# Altium footprint library PcbLib.PcbLib: 25 footprints (part 2 of 2)
Each footprint in its own frame and in the unit in brackets; x right, y up, seen from the top. Pads: shape width x height; smd on the part's side, far side on the other; paste and mask are expansions set on the pad; w line width, h text height; cw(c..) or ccw(c..) is an arc to the next point about the centre after c.
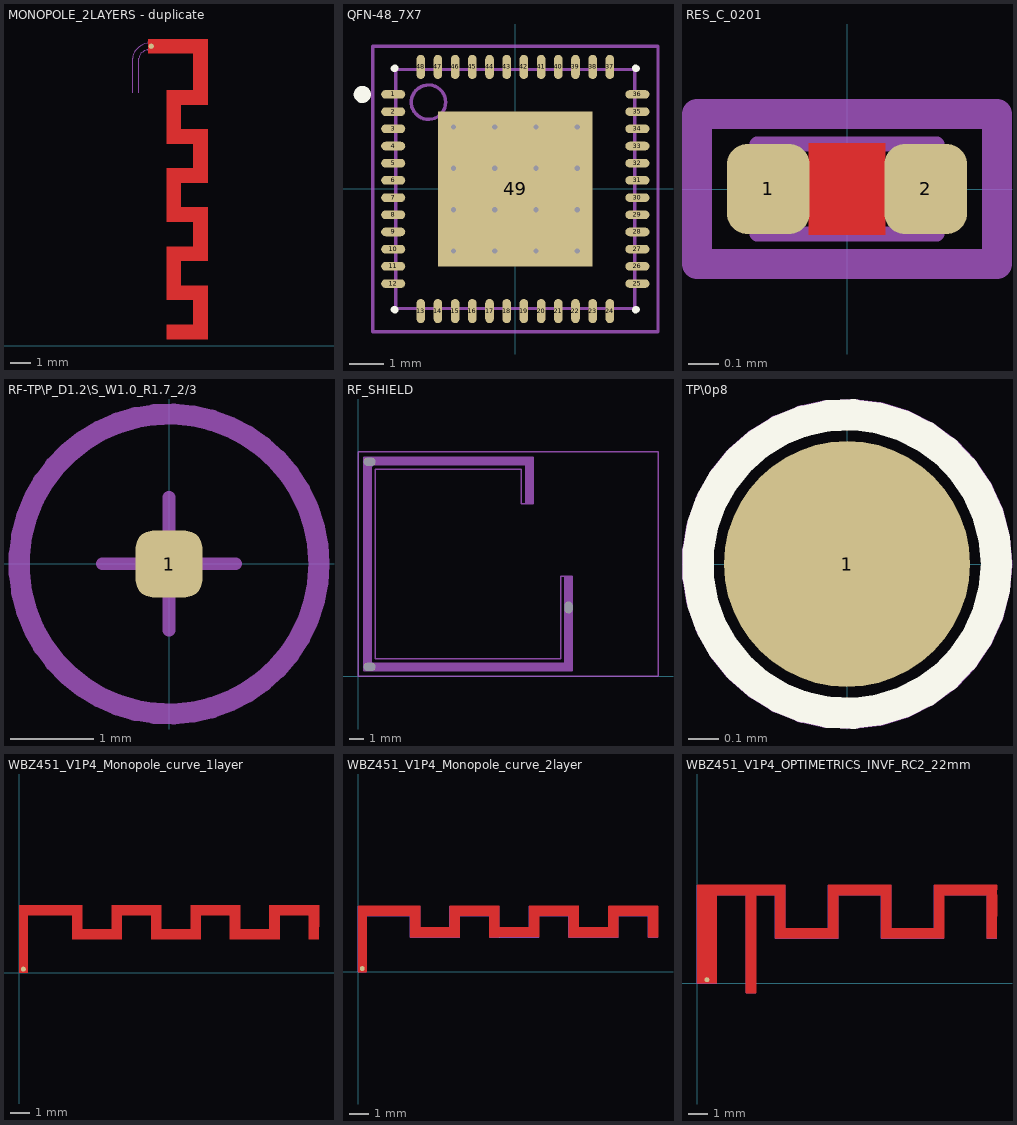
[diagram p1: the footprints below, top view; thin cyan lines are the x and y axes]

## MONOPOLE_2LAYERS - duplicate [mil]
height 27.56
pads (1):
  round 10 smd paste-10: 1(1024,573.99)
Top Layer:
  region: 1018,587.78 1132.17,587.78 1132.17,461.8 1080.99,461.8 1080.99,414.55 1132.17,414.55 1132.17,312.19 1080.99,312.19 1080.99,264.94 1132.17,264.94 1132.17,162.58 1080.99,162.58 1080.99,115.34 1132.17,115.34 1132.17,12.98 1053.43,12.98 1053.43,40.54 1104.61,40.54 1104.61,87.78 1053.43,87.78 1053.43,190.14 1104.61,190.14 1104.61,237.39 1053.43,237.39 1053.43,339.75 1104.61,339.75 1104.61,386.99 1053.43,386.99 1053.43,489.35 1104.61,489.35 1104.61,560.22 1018,560.22
Top Solder:
  region: 1018,587.78 1132.17,587.78 1132.17,461.8 1080.99,461.8 1080.99,414.55 1132.17,414.55 1132.17,312.19 1080.99,312.19 1080.99,264.94 1132.17,264.94 1132.17,162.58 1080.99,162.58 1080.99,115.34 1132.17,115.34 1132.17,12.98 1053.43,12.98 1053.43,40.54 1104.61,40.54 1104.61,87.78 1053.43,87.78 1053.43,190.14 1104.61,190.14 1104.61,237.39 1053.43,237.39 1053.43,339.75 1104.61,339.75 1104.61,386.99 1053.43,386.99 1053.43,489.35 1104.61,489.35 1104.61,560.22 1018,560.22
Mechanical 11:
  text ".Designator" at 900,290 h39.37
Mechanical 20:
  lines w0.5: 988.69,484.93 988.69,550.9 cw(c1013.65,550.9) 996,568.55 cw(c1024.79,539.77) 1018.26,579.95 1018.26,582.4 ; 1000.59,484.93 1000.59,550.9 cw(c1013.65,550.9) 1004.42,560.14 cw(c1024.79,539.77) 1018.26,567.83 1018.26,565.6

## QFN-48_7X7 [mm] "VQFN48_7x7mm_4.5x4.5mm_Paddle"
height 1
pads (49):
  oval 0.7x0.25 smd paste+0.051 mask+0.051: 1(-3.55,2.75) 2(-3.55,2.25) 3(-3.55,1.75) 4(-3.55,1.25) 5(-3.55,0.75) 6(-3.55,0.25) 7(-3.55,-0.25) 8(-3.55,-0.75) 9(-3.55,-1.25) 10(-3.55,-1.75) 11(-3.55,-2.25) 12(-3.55,-2.75) 25(3.55,-2.75) 26(3.55,-2.25) 27(3.55,-1.75) 28(3.55,-1.25) 29(3.55,-0.75) 30(3.55,-0.25) 31(3.55,0.25) 32(3.55,0.75) 33(3.55,1.25) 34(3.55,1.75) 35(3.55,2.25) 36(3.55,2.75)
  oval 0.25x0.7 smd paste+0.051 mask+0.051: 13(-2.75,-3.55) 14(-2.25,-3.55) 15(-1.75,-3.55) 16(-1.25,-3.55) 17(-0.75,-3.55) 18(-0.25,-3.55) 19(0.25,-3.55) 20(0.75,-3.55) 21(1.25,-3.55) 22(1.75,-3.55) 23(2.25,-3.55) 24(2.75,-3.55) 37(2.75,3.55) 38(2.25,3.55) 39(1.75,3.55) 40(1.25,3.55) 41(0.75,3.55) 42(0.25,3.55) 43(-0.25,3.55) 44(-0.75,3.55) 45(-1.25,3.55) 46(-1.75,3.55) 47(-2.25,3.55) 48(-2.75,3.55)
  rect 4.5x4.5 smd paste-5.08 mask+0.051: 49(0,0)
via -0.6,-1.8 diameter 0.356 hole 0.152
via 0.6,-1.8 diameter 0.356 hole 0.152
via -1.8,-1.8 diameter 0.356 hole 0.152
via 1.8,-1.8 diameter 0.356 hole 0.152
via 0.6,1.8 diameter 0.356 hole 0.152
via -0.6,1.8 diameter 0.356 hole 0.152
via 1.8,1.8 diameter 0.356 hole 0.152
via -1.8,1.8 diameter 0.356 hole 0.152
via 0.6,-0.6 diameter 0.356 hole 0.152
via -0.6,-0.6 diameter 0.356 hole 0.152
via 1.8,-0.6 diameter 0.356 hole 0.152
via -1.8,-0.6 diameter 0.356 hole 0.152
via -1.8,0.6 diameter 0.356 hole 0.152
via 1.8,0.6 diameter 0.356 hole 0.152
via -0.6,0.6 diameter 0.356 hole 0.152
via 0.6,0.6 diameter 0.356 hole 0.152
Top Overlay:
  circle w0.25: c-4.45,2.75 r0.125
  lines w0.2: -3.525,-3.5 -3.5,-3.5 -3.5,-3.525 ; -3.525,3.5 -3.5,3.5 -3.5,3.525 ; 3.5,-3.525 3.5,-3.5 3.525,-3.5 ; 3.5,3.525 3.5,3.5 3.525,3.5
Top Paste:
  rectangle: -1.65,-1.65 -0.75,-0.75
  rectangle: -1.65,0.75 -0.75,1.65
  rectangle: -0.45,0.75 0.45,1.65
  rectangle: 0.75,0.75 1.65,1.65
  rectangle: 0.75,-0.45 1.65,0.45
  rectangle: -0.45,-0.45 0.45,0.45
  rectangle: -1.65,-0.45 -0.75,0.45
  rectangle: 0.75,-1.65 1.65,-0.75
  rectangle: -0.45,-1.65 0.45,-0.75
Bottom Solder:
  rectangle: -0.45,-1.65 0.45,-0.75
  rectangle: 0.75,-1.65 1.65,-0.75
  rectangle: -1.65,-0.45 -0.75,0.45
  rectangle: -0.45,-0.45 0.45,0.45
  rectangle: 0.75,-0.45 1.65,0.45
  rectangle: 0.75,0.75 1.65,1.65
  rectangle: -0.45,0.75 0.45,1.65
  rectangle: -1.65,0.75 -0.75,1.65
  rectangle: -1.65,-1.65 -0.75,-0.75
Mechanical 11:
  circle w0.1: c-2.525,2.525 r0.5
  lines w0.1: -3.475,-3.475 -3.475,3.475 3.475,3.475 3.475,-3.475 -3.475,-3.475
  text ".Designator" at -2.692,0.762 h1.14
Mechanical 15:
  lines w0.1: -0.5,0 0.5,0 ; 0,-0.5 0,0.5 ; -4.15,-4.15 -4.15,4.15 4.15,4.15 4.15,-4.15 -4.15,-4.15
3D body "User Library-QFN48_7x7.step": height 0.78, standoff -0.02, extent -3.51,-3.51 3.51,3.51

## RES_C_0201 [mm] "Chip Resistor, 2-Leads, Body 0.6x0.3mm, IPC Medium Density"
height 0.23
pads (2):
  rrect50% 0.275x0.3 smd mask+0.064: 1(-0.262,0) 2(0.262,0)
Top Layer:
  pour cut-out: -0.127,0.152 -0.127,-0.152 0.127,-0.152 0.127,0.152
Mechanical 11:
  lines w0.05: -0.3,-0.15 0.3,-0.15 0.3,0.15 -0.3,0.15 -0.3,-0.15
  text ".Designator" at -0.225,-0.05 h0.38
Mechanical 15:
  lines w0.1: -0.125,0 0.125,0 ; 0,-0.125 0,0.125 ; -0.5,-0.25 -0.5,0.25 0.5,0.25 0.5,-0.25 -0.5,-0.25
3D body "User Library-SMD RESISTOR-10201.STEP": height 0.22, standoff -0.01, extent -0.3,-0.15 0.3,0.15

## RF-TP\P_D1.2\S_W1.0_R1.7_2/3 [mm]
height 9.5
pads (1):
  rrect50% 0.8x0.8 smd paste-1.27: 1(0,-0.002)
Top Solder:
  circle w0.508: c0,0 r1.372
Mechanical 11:
  circle w0.254: c0,-0.002 r1.804
  lines w0.152: -0.8,0 0,0 ; 0,-0.8 0,0 ; 0,0.8 0,0 ; 0.8,0 0,0
  text ".Designator" at -0.889,0.559 h0.64

## RF_SHIELD [mm]
pads (3):
  oval 0.7x0.3 hole 0.55 slot 0.8 at 0 deg unplated mask+0.051: ""(0.801,0.65) ""(0.802,14.8)
  oval 0.3x0.7 hole 0.55 slot 0.8 at 90 deg unplated mask+0.051: ""(14.53,4.75)
Top Paste:
  region: 12.08,15.1 12.08,11.892 11.58,11.892 11.58,15.1
  region: 12.08,14.6 0.4,14.6 0.4,15.1 12.08,15.1
  region: 14.78,0.4 14.78,6.89 14.28,6.89 14.28,0.4
  region: 0.6,0.9 14.78,0.9 14.78,0.4 0.6,0.4
  region: 0.4,15.1 0.4,0.4 0.9,0.4 0.9,15.1
Top Solder:
  region: 12.08,15.1 12.08,11.892 11.58,11.892 11.58,15.1
  region: 12.08,14.6 0.4,14.6 0.4,15.1 12.08,15.1
  region: 0.9,0.4 0.9,15.1 0.4,15.1 0.4,0.4
  region: 0.4,0.9 14.78,0.9 14.78,0.4 0.4,0.4
  region: 14.28,0.4 14.28,6.89 14.78,6.89 14.78,0.4
Mechanical 11:
  lines w0.1: 0,0 20.7,0 20.7,15.5 0,15.5 0,0
Mechanical 13:
  region: 12.08,15.1 12.08,11.892 11.58,11.892 11.58,15.1
  region: 12.08,14.6 0.4,14.6 0.4,15.1 12.08,15.1
  region: 14.28,0.4 14.28,6.89 14.78,6.89 14.78,0.4
  region: 0.4,0.9 14.78,0.9 14.78,0.4 0.4,0.4
  region: 0.9,0.4 0.9,15.1 0.4,15.1 0.4,0.4
  lines w0.1: 11.58,11.892 11.58,14.6 0.9,14.6 0.9,0.9 14.28,0.9 14.28,6.884 ; 13.98,1.2 1.2,1.2 1.2,14.3 11.28,14.3 11.28,11.892 12.08,11.892 12.08,15.1 0.4,15.1 0.4,0.4 14.78,0.4 14.78,6.89 13.98,6.89 13.98,1.202
Shield (Mech19):
  region: 14.805,4.875 14.805,4.93 14.764,5.031 14.686,5.108 14.585,5.15 14.476,5.15 14.375,5.108 14.297,5.031 14.255,4.93 14.255,4.875 14.255,4.625 14.255,4.57 14.297,4.469 14.375,4.392 14.476,4.35 14.585,4.35 14.686,4.392 14.764,4.469 14.805,4.57 14.805,4.625
  region: 0.927,14.525 0.981,14.525 1.082,14.567 1.16,14.644 1.202,14.745 1.202,14.855 1.16,14.956 1.082,15.033 0.981,15.075 0.927,15.075 0.677,15.075 0.622,15.075 0.521,15.033 0.444,14.956 0.402,14.855 0.402,14.745 0.444,14.644 0.521,14.567 0.622,14.525 0.677,14.525
  region: 0.926,0.375 0.981,0.375 1.082,0.417 1.159,0.494 1.201,0.595 1.201,0.705 1.159,0.806 1.082,0.883 0.981,0.925 0.926,0.925 0.676,0.925 0.622,0.925 0.52,0.883 0.443,0.806 0.401,0.705 0.401,0.595 0.443,0.494 0.52,0.417 0.622,0.375 0.676,0.375
  lines w0: 0.676,0.375 cw(c0.676,0.65) 0.676,0.925 0.926,0.925 cw(c0.926,0.65) 0.926,0.375 0.676,0.375 ; 0.677,14.525 cw(c0.677,14.8) 0.677,15.075 0.927,15.075 cw(c0.927,14.8) 0.927,14.525 0.677,14.525 ; 14.255,4.625 ccw(c14.53,4.625) 14.805,4.625 14.806,4.875 ccw(c14.53,4.875) 14.255,4.875 14.256,4.625
  lines w0.1: 14.28,6.884 14.28,0.9 0.9,0.9 0.9,14.6 11.58,14.6 11.58,11.892 12.08,11.892 12.08,15.1 0.4,15.1 0.4,0.4 14.78,0.4 14.78,6.89 14.28,6.89
Mechanical 21:
  region: 0.927,0.375 0.981,0.375 1.082,0.417 1.16,0.494 1.202,0.595 1.202,0.705 1.16,0.806 1.082,0.883 0.981,0.925 0.927,0.925 0.677,0.925 0.622,0.925 0.521,0.883 0.444,0.806 0.402,0.705 0.402,0.595 0.444,0.494 0.521,0.417 0.622,0.375 0.677,0.375
  region: 0.927,14.525 0.982,14.525 1.083,14.567 1.16,14.644 1.202,14.745 1.202,14.855 1.16,14.956 1.083,15.033 0.982,15.075 0.927,15.075 0.677,15.075 0.622,15.075 0.521,15.033 0.444,14.956 0.402,14.855 0.402,14.745 0.444,14.644 0.521,14.567 0.622,14.525 0.677,14.525
  region: 14.806,4.875 14.806,4.93 14.764,5.031 14.687,5.108 14.586,5.15 14.476,5.15 14.375,5.108 14.298,5.031 14.256,4.93 14.256,4.875 14.256,4.625 14.256,4.57 14.298,4.469 14.375,4.392 14.476,4.35 14.586,4.35 14.687,4.392 14.764,4.469 14.806,4.57 14.806,4.625
  lines w0: 0.677,0.375 cw(c0.677,0.65) 0.677,0.925 0.927,0.925 cw(c0.927,0.65) 0.927,0.375 0.677,0.375 ; 0.677,14.525 cw(c0.677,14.8) 0.677,15.075 0.927,15.075 cw(c0.927,14.8) 0.927,14.525 0.677,14.525 ; 14.256,4.625 ccw(c14.531,4.625) 14.806,4.625 14.806,4.875 ccw(c14.531,4.875) 14.256,4.875 14.256,4.625
  lines w0.1: 14.281,6.884 14.281,0.9 0.901,0.9 0.901,14.6 11.58,14.6 11.58,11.892 12.08,11.892 12.08,15.1 0.401,15.1 0.401,0.4 14.78,0.4 14.78,6.89 14.281,6.89

## TP\0p8 [mm]
height 9.5
pads (1):
  round 0.8 smd paste-1.016 mask+0: 1(0,0)
Top Overlay:
  circle w0.102: c0,0 r0.486
Mechanical 11:
  circle w0.1: c0,0 r0.488
  text ".Designator" at -0.076,-0.076 h0.38

## WBZ451_V1P4_Monopole_curve_1layer [mil]
pads (1):
  round 10 smd: 1(8.4,6.74)
Top Layer:
  region: 170 vertices and 0 holes, not listed, extent -0.27,-0.27 598.69,134.11
Top Solder:
  drawing of 1 lines, arcs and shapes, not listed

## WBZ451_V1P4_Monopole_curve_2layer [mil]
pads (1):
  round 10 smd: 1(8.4,6.74)
Top Layer:
  region: 156 vertices and 0 holes, not listed, extent -0.27,-0.27 610.5,134.11
Top Solder:
  drawing of 1 lines, arcs and shapes, not listed
Mechanical 25:
  circle w0.5: c116.14,122.03 r4.92
  circle w0.5: c196.85,122.03 r4.92
  circle w0.5: c277.56,122.03 r4.92
  circle w0.5: c358.27,122.03 r4.92
  circle w0.5: c438.98,122.03 r4.92
  circle w0.5: c519.68,122.03 r4.92
  circle w0.5: c600.39,118.09 r4.92
  circle w0.5: c194.88,82.66 r4.92
  circle w0.5: c275.59,82.66 r4.92
  circle w0.5: c356.3,82.66 r4.92
  circle w0.5: c437.01,82.66 r4.92
  circle w0.5: c517.72,82.66 r4.92
  circle w0.5: c598.43,82.66 r4.92
  lines w0.5: 0,122.03 0,0 16.8,0 16.8,122.03 ; 11.67,133.84 0,133.84 ; 31.36,114.16 125.98,114.16 ; 0,133.84 0,114.16 125.98,114.16 ; 0,133.84 125.98,133.84 ; 0,133.84 125.98,133.84 ; 106.3,70.85 106.3,90.53 ; 106.3,70.85 206.69,70.85 ; 106.3,70.85 106.3,133.84 ; 106.3,70.85 125.98,70.85 ; 106.3,70.85 106.3,133.84 ; 106.3,70.85 125.98,70.85 ; 106.3,70.85 106.3,90.53 ; 106.3,70.85 206.69,70.85 ; 106.3,90.53 206.69,90.53 ; 106.3,90.53 206.69,90.53 ; 106.3,133.84 125.98,133.84 ; 106.3,133.84 125.98,133.84 ; 125.98,70.85 125.98,133.84 ; 125.98,70.85 125.98,133.84 ; 125.98,114.16 125.98,133.84 ; 125.98,114.16 125.98,133.84 ; 187.01,70.85 187.01,133.84 ; 187.01,70.85 206.69,70.85 ; 187.01,70.85 187.01,133.84 ; 187.01,70.85 206.69,70.85 ; 187.01,114.16 187.01,133.84 ; 187.01,114.16 287.4,114.16 ; 187.01,114.16 187.01,133.84 ; 187.01,114.16 287.4,114.16 ; 187.01,133.84 287.4,133.84 ; 187.01,133.84 206.69,133.84 ; 187.01,133.84 206.69,133.84 ; 187.01,133.84 287.4,133.84 ; 206.69,70.85 206.69,90.53 ; 206.69,70.85 206.69,133.84 ; 206.69,70.85 206.69,90.53 ; 206.69,70.85 206.69,133.84 ; 267.72,70.85 267.72,90.53 ; 267.72,70.85 368.11,70.85 ; 267.72,70.85 267.72,133.84 ; 267.72,70.85 287.4,70.85 ; 267.72,70.85 267.72,133.84 ; 267.72,70.85 287.4,70.85 ; 267.72,70.85 267.72,90.53 ; 267.72,70.85 368.11,70.85 ; 267.72,90.53 368.11,90.53 ; 267.72,90.53 368.11,90.53 ; 267.72,133.84 287.4,133.84 ; 267.72,133.84 287.4,133.84 ; 287.4,70.85 287.4,133.84 ; 287.4,70.85 287.4,133.84 ; 287.4,114.16 287.4,133.84 ; 287.4,114.16 287.4,133.84 ; 348.43,70.85 348.43,133.84 ; 348.43,70.85 368.11,70.85 ; 348.43,70.85 348.43,133.84 ; 348.43,70.85 368.11,70.85 ; 348.43,114.16 348.43,133.84 ; 348.43,114.16 448.82,114.16 ; 348.43,114.16 348.43,133.84 ; 348.43,114.16 448.82,114.16 ; 348.43,133.84 448.82,133.84 ; 348.43,133.84 368.11,133.84 ; 348.43,133.84 368.11,133.84 ; 348.43,133.84 448.82,133.84 ; 368.11,70.85 368.11,90.53 ; 368.11,70.85 368.11,133.84 ; 368.11,70.85 368.11,133.84 ; 368.11,70.85 368.11,90.53 ; 429.13,70.85 429.13,90.53 ; 429.13,70.85 529.53,70.85 ; 429.13,70.85 429.13,133.84 ; 429.13,70.85 448.82,70.85 ; 429.13,70.85 429.13,133.84 ; 429.13,70.85 448.82,70.85 ; 429.13,70.85 429.13,90.53 ; 429.13,70.85 529.53,70.85 ; 429.13,90.53 529.53,90.53 ; 429.13,90.53 529.53,90.53 ; 429.13,133.84 448.82,133.84 ; 429.13,133.84 448.82,133.84 ; 448.82,70.85 448.82,133.84 ; 448.82,70.85 448.82,133.84 ; 448.82,114.16 448.82,133.84 ; 448.82,114.16 448.82,133.84 ; 509.84,70.85 509.84,133.84 ; 509.84,70.85 529.53,70.85 ; 509.84,70.85 509.84,133.84 ; 509.84,70.85 529.53,70.85 ; 509.84,114.16 509.84,133.84 ; 509.84,114.16 610.24,114.16 ; 509.84,114.16 509.84,133.84 ; 509.84,114.16 610.24,114.16 ; 509.84,133.84 610.24,133.84 ; 509.84,133.84 529.53,133.84 ; 509.84,133.84 529.53,133.84 ; 509.84,133.84 610.24,133.84 ; 529.53,70.85 529.53,90.53 ; 529.53,70.85 529.53,133.84 ; 529.53,70.85 529.53,90.53 ; 529.53,70.85 529.53,133.84 ; 590.55,70.85 590.55,133.84 ; 590.55,70.85 610.24,70.85 ; 590.55,70.85 590.55,133.84 ; 590.55,70.85 610.24,70.85 ; 590.55,133.84 610.24,133.84 ; 590.55,133.84 610.24,133.84 ; 610.24,70.85 610.24,133.84 ; 610.24,70.85 610.24,133.84 ; 610.24,114.16 610.24,133.84 ; 610.24,114.16 610.24,133.84

## WBZ451_V1P4_OPTIMETRICS_INVF_RC2_22mm [mil]
pads (1):
  round 10 smd: 1(19.68,6.74)
Top Layer:
  region: 0,-0.27 -0.05,-0.26 -0.15,-0.22 -0.22,-0.15 -0.27,-0.05 -0.27,0 -0.27,196.85 -0.27,196.9 -0.22,197 -0.15,197.07 -0.05,197.12 0,197.12 177.17,197.12 177.22,197.12 177.32,197.07 177.39,197 177.43,196.9 177.43,196.85 177.43,110.5 263.51,110.5 263.51,196.85 263.51,196.9 263.55,197 263.63,197.07 263.73,197.12 263.78,197.12 389.76,197.12 389.82,197.12 389.91,197.07 389.99,197 390.03,196.9 390.03,196.85 390.03,110.5 476.11,110.5 476.11,196.85 476.11,196.9 476.15,197 476.23,197.07 476.33,197.12 476.38,197.12 602.36,197.12 602.41,197.12 602.51,197.07 602.59,197 602.63,196.9 602.63,196.85 602.63,177.16 602.63,177.17 602.63,177.16 602.63,90.55 602.63,90.5 602.59,90.4 602.51,90.33 602.41,90.29 602.36,90.29 582.68,90.29 582.62,90.29 582.53,90.33 582.45,90.4 582.41,90.5 582.41,90.55 582.41,176.9 496.33,176.9 496.33,90.55 496.33,90.5 496.29,90.4 496.21,90.33 496.12,90.29 496.06,90.29 370.08,90.29 370.03,90.29 369.93,90.33 369.85,90.4 369.81,90.5 369.81,90.55 369.81,176.9 283.73,176.9 283.73,90.55 283.73,90.5 283.69,90.4 283.61,90.33 283.52,90.29 283.46,90.29 157.48,90.29 157.43,90.29 157.33,90.33 157.26,90.4 157.22,90.5 157.22,90.55 157.22,176.9 118.38,176.9 118.38,-19.68 118.38,-19.74 118.33,-19.84 118.26,-19.91 118.16,-19.95 118.11,-19.95 98.43,-19.95 98.37,-19.95 98.27,-19.91 98.2,-19.84 98.16,-19.74 98.16,-19.68 98.16,176.9 39.64,176.9 39.64,0 39.64,-0.05 39.59,-0.15 39.52,-0.22 39.42,-0.27 39.37,-0.27
Top Solder:
  region: 0,-0.27 -0.05,-0.26 -0.15,-0.22 -0.22,-0.15 -0.27,-0.05 -0.27,0 -0.27,196.85 -0.27,196.9 -0.22,197 -0.15,197.07 -0.05,197.12 0,197.12 177.17,197.12 177.22,197.12 177.32,197.07 177.39,197 177.43,196.9 177.43,196.85 177.43,110.5 263.51,110.5 263.51,196.85 263.51,196.9 263.55,197 263.63,197.07 263.73,197.12 263.78,197.12 389.76,197.12 389.82,197.12 389.91,197.07 389.99,197 390.03,196.9 390.03,196.85 390.03,110.5 476.11,110.5 476.11,196.85 476.11,196.9 476.15,197 476.23,197.07 476.33,197.12 476.38,197.12 602.36,197.12 602.41,197.12 602.51,197.07 602.59,197 602.63,196.9 602.63,196.85 602.63,177.16 602.63,177.17 602.63,177.16 602.63,90.55 602.63,90.5 602.59,90.4 602.51,90.33 602.41,90.29 602.36,90.29 582.68,90.29 582.62,90.29 582.53,90.33 582.45,90.4 582.41,90.5 582.41,90.55 582.41,176.9 496.33,176.9 496.33,90.55 496.33,90.5 496.29,90.4 496.21,90.33 496.12,90.29 496.06,90.29 370.08,90.29 370.03,90.29 369.93,90.33 369.85,90.4 369.81,90.5 369.81,90.55 369.81,176.9 283.73,176.9 283.73,90.55 283.73,90.5 283.69,90.4 283.61,90.33 283.52,90.29 283.46,90.29 157.48,90.29 157.43,90.29 157.33,90.33 157.26,90.4 157.22,90.5 157.22,90.55 157.22,176.9 118.38,176.9 118.38,-19.68 118.38,-19.74 118.33,-19.84 118.26,-19.91 118.16,-19.95 118.11,-19.95 98.43,-19.95 98.37,-19.95 98.27,-19.91 98.2,-19.84 98.16,-19.74 98.16,-19.68 98.16,176.9 39.64,176.9 39.64,0 39.64,-0.05 39.59,-0.15 39.52,-0.22 39.42,-0.27 39.37,-0.27
Mechanical 25:
  lines w0.5: 0,177.17 118.11,177.17 ; 0,177.17 0,196.85 118.11,196.85 ; 0,177.17 0,0 39.37,0 39.37,177.17 0,177.17 ; 118.11,177.17 177.17,177.17 177.17,196.85 ; 118.11,177.17 118.11,196.85 ; 118.11,177.17 118.11,-19.68 98.43,-19.68 98.43,177.17 118.11,177.17 ; 118.11,177.17 118.11,196.85 ; 118.11,196.85 177.17,196.85 ; 157.48,90.55 283.46,90.55 ; 157.48,90.55 157.48,110.24 283.46,110.24 283.46,90.55 ; 157.48,90.55 177.17,90.55 177.17,196.85 ; 157.48,90.55 157.48,196.85 177.17,196.85 ; 263.78,196.85 263.78,177.17 389.76,177.17 389.76,196.85 ; 263.78,196.85 389.76,196.85 ; 263.78,196.85 263.78,90.55 283.46,90.55 ; 263.78,196.85 283.46,196.85 283.46,90.55 ; 370.08,90.55 496.06,90.55 ; 370.08,90.55 370.08,110.24 496.06,110.24 496.06,90.55 ; 370.08,90.55 389.76,90.55 389.76,196.85 ; 370.08,90.55 370.08,196.85 389.76,196.85 ; 476.38,196.85 476.38,177.17 602.36,177.17 602.36,196.85 ; 476.38,196.85 602.36,196.85 ; 476.38,196.85 476.38,90.55 496.06,90.55 ; 476.38,196.85 496.06,196.85 496.06,90.55 ; 602.36,196.85 602.36,90.55 582.68,90.55 582.68,196.85 602.36,196.85